# Altium schematic symbol library Ultrascale_SchLib.SchLib: 148 symbols (part 2 of 3)
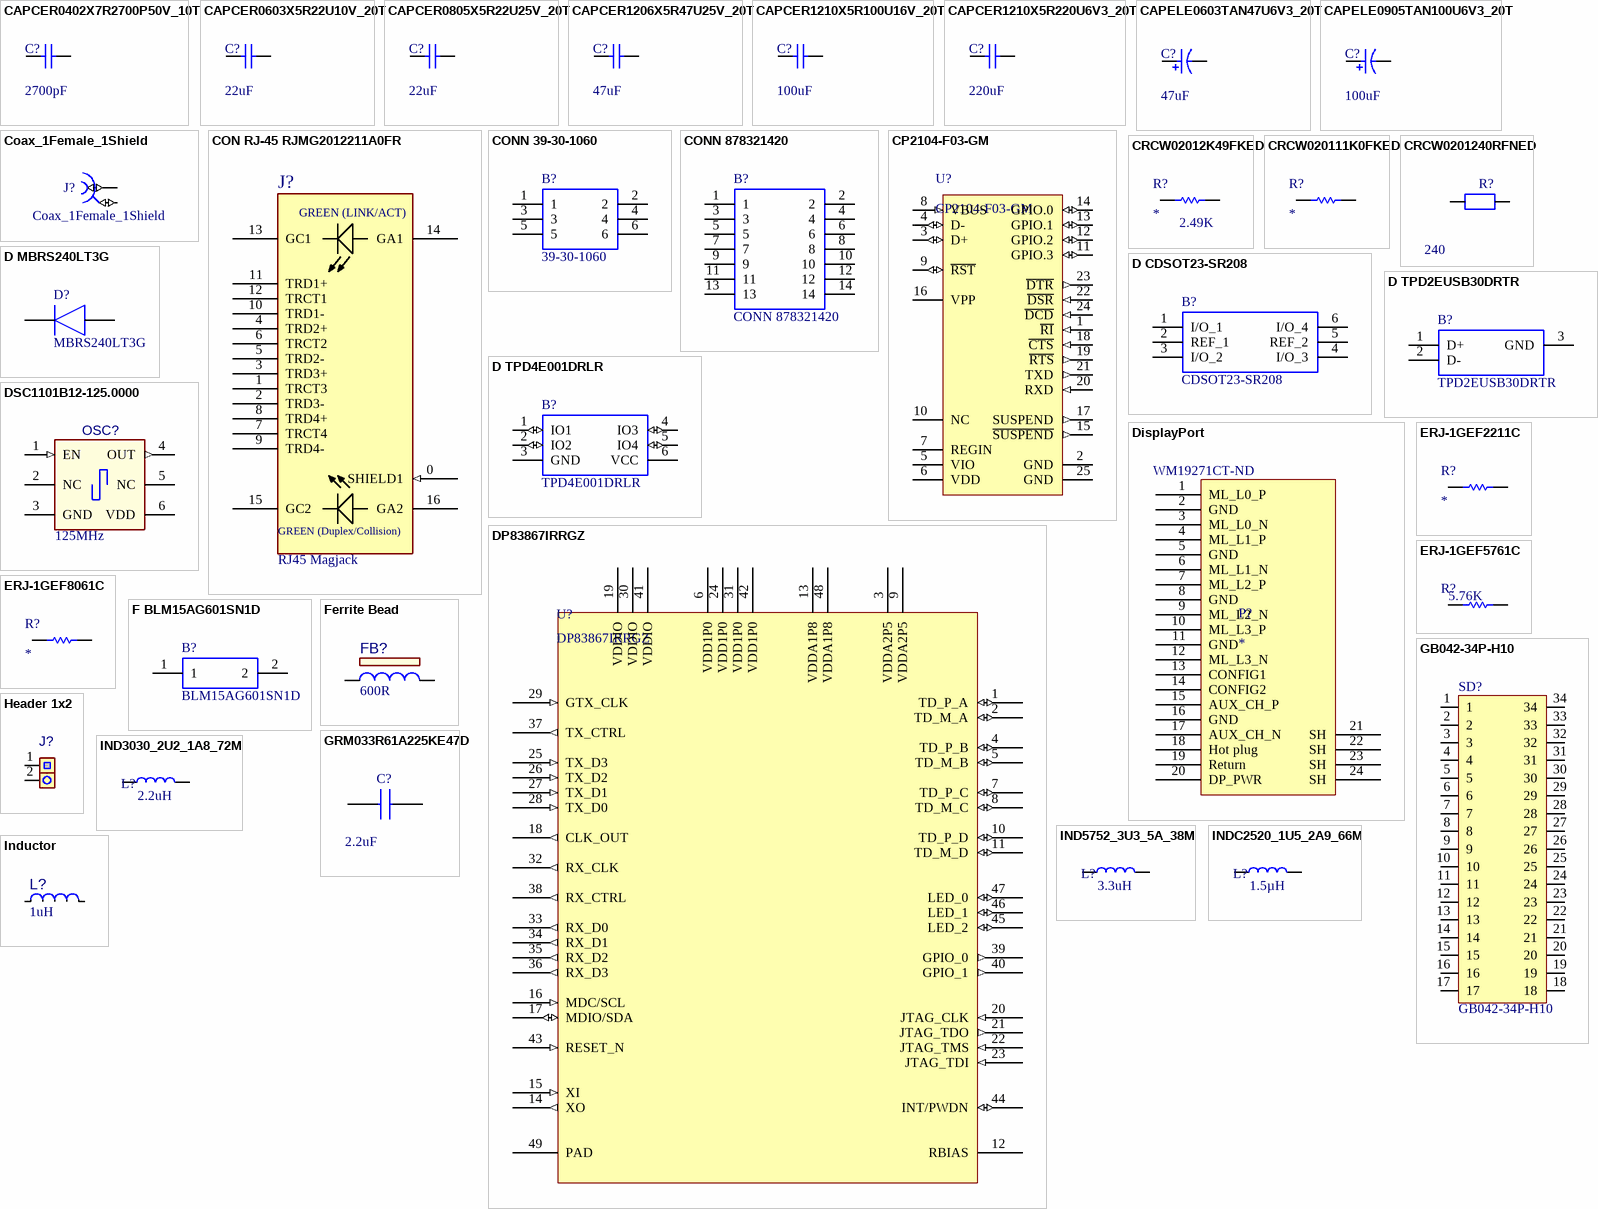
[diagram p8: symbols CAPCER0402X7R2700P50V_10T to Inductor]

## DSC1101B12-125.0000
designator OSC?  Frequency: 125MHz
OSC MEMS 125.000MHZ CMOS SMD; Manufacturer 1: Micrel; Manufacturer Part Number 1: DSC1101BI2-125.0000; Populated: Yes; Supplier 1: Digi-Key; Category: Crystals and Oscillators; ComponentLink1URL: http://www.ctscorp.com/components/Datasheets/008-0256-0.pdf; ComponentLink1Description: Datasheet; Description_: OSC MEMS 125.000MHZ CMOS SMD; RoHS: RoHS Compliant; Package: 5.0mm x 3.2mm
footprint OSC_5MX3M2_A (Oscillator 5x3.2mm 6 pin, 4 physical pins (2 & 5 removed))
pins: 1 EN (in), 2 NC, 3 GND, 4 OUT (out), 5 NC, 6 VDD (power)

## ERJ-1GEF2211C
designator R?
RES 2.21K OHM 0201 1% 1/20W; Manufacturer_Part_Number: ERJ-1GEF2211C; Vendor: Panasonic; Resistance_In_Ohms: 0.0; Power_(Watts): 0.05W, 1/20W; Tolerance: Jumper; Lead_Style: Surface Mount (SMD - SMT); Voltage_-_Working: 15V; Number_of_Terminations: 2; C: Copyright (C) 2015 Accelerated Designs. All rights reserved; DigiKeyPartNumber: P0.0AGTR-ND; Quantity_Available: 1650000; Copyright: Copyright (C) 2015 Accelerated Designs. All rights reserved; DataSheet: http://industrial.panasonic.com/www-data/pdf/AOA0000/AOA0000CE2.pdf; Case: 0201 (0603 metric); Packaging: Tape &amp; Reel (TR); Composition: Thick Film; Temperature_Coefficient: -; Resistance_(Ohms): 0.0; Features: -; Package_/_Case: 0201 (0603 Metric); Size_/_Dimension: 0.024" L x 0.012" W (0.60mm x 0.30mm); Height: 0.010" (0.26mm); Value: Value; Supplier 1: Digi-Key
footprint RC0201N
pins: 1, 2

## ERJ-1GEF5761C
designator R?  Resistance_(Ohms): 5.76K  (hidden comment: *)
RES 5.76K OHM 0201 1% 1/20W; Manufacturer_Part_Number: ERJ-1GEF5761C; Vendor: Panasonic; Power_(Watts): 0.05W, 1/20W; Tolerance: Â±1%; Lead_Style: Surface Mount (SMD - SMT); Voltage_-_Working: 15V; Temperature_Coefficient: Â±200ppm/Â°C; Number_of_Terminations: 2; C: Copyright (C) 2015 Accelerated Designs. All rights reserved; DigiKeyPartNumber: P4.70KABTR-ND; Quantity_Available: 0; Copyright: Copyright (C) 2015 Accelerated Designs. All rights reserved; DataSheet: http://industrial.panasonic.com/www-data/pdf/AOA0000/AOA0000CE2.pdf; Resistance_In_Ohms: 5.76K; Case: 0201 (0603 metric); Packaging: Tape &amp; Reel (TR); Composition: Thick Film; Features: -; Package_/_Case: 0201 (0603 Metric); Size_/_Dimension: 0.024" L x 0.012" W (0.60mm x 0.30mm); Height: 0.010" (0.26mm); Value: Value; Supplier 1: Digi-Key; Supplier Part Number 1: P5.76KABCT-ND
footprint RC0201N
pins: 1, 2

## ERJ-1GEF8061C
designator R?
RES 8.06K OHM 0201 1% 1/20W; Manufacturer_Part_Number: ERJ-1GEF8061C; Vendor: Panasonic; Resistance_In_Ohms: 4.70K; Power_(Watts): 0.05W, 1/20W; Tolerance: Â±1%; Lead_Style: Surface Mount (SMD - SMT); Voltage_-_Working: 15V; Temperature_Coefficient: Â±200ppm/Â°C; Number_of_Terminations: 2; C: Copyright (C) 2015 Accelerated Designs. All rights reserved; DigiKeyPartNumber: P4.70KABTR-ND; Quantity_Available: 0; Copyright: Copyright (C) 2015 Accelerated Designs. All rights reserved; DataSheet: http://industrial.panasonic.com/www-data/pdf/AOA0000/AOA0000CE2.pdf; Case: 0201 (0603 metric); Packaging: Tape &amp; Reel (TR); Composition: Thick Film; Features: -; Package_/_Case: 0201 (0603 Metric); Size_/_Dimension: 0.024" L x 0.012" W (0.60mm x 0.30mm); Height: 0.010" (0.26mm); Value: Value; Supplier 1: Digi-Key
footprint RC0201N
pins: 1, 2

## F BLM15AG601SN1D
designator B?, comment BLM15AG601SN1D
Ferrite bead SMD 0402 600R 300mA; Manufacturer_Name: Murata Electronics; Geometry.Height: 0.55mm; Number of Lines: 1; Impedance @ Frequency: 600 Ohm @ 100MHz; DC Resistance (DCR) (Max): 520 mOhm; Manufacturer_Part_Number: BLM15AG601SN1D; Datasheet Link: http://www.murata.com/~/media/webrenewal/support/library/catalog/products/emc/emifil/c31e.ashx?la=en-gb; Digi-Key Part Number: 490-1006-1-ND; Series: EMIFIL®, BLM15; Current Rating (Max): 300mA; Operating Temperature: -55°C ~ 125°C; Package / Case: 0402 (1005 Metric); Mounting Type: Surface Mount; Height (Max): 0.022" (0.55mm); Size / Dimension: 0.039" L x 0.020" W (1.00mm x 0.50mm); Supplier 1: Digi-Key; Supplier Part Number 1: 490-1006-1-ND
footprint BEADC1005X55N
pins: 1, 2

## Ferrite Bead
designator FB?  value 600R  (hidden comment: Ferrite Bead)
Manufacturer 1: TDK Corporation; Manufacturer Part Number 1: MPZ2012S601AT000; MCHP-ID: IND1162; Description_: FERRITE 2A 600R SMD 0805; Dev Tools Status: Production; Owner: Randolph Sobrepena; DCR: 100M; Test Frequency: 100MHz; Populated: YES; Revision: 1; Symbol: Ferrite Bead; Status: MCL Design; ComponentLink1URL: https://chn-vm-apps.microchip.com/mchprepo/parts/Datasheets/beads_commercial_power_mpz_en; ComponentLink1Description: Datasheet; Package: 0805; Type: Ferrite Bead; Category: Inductor; Supplier 1: Digi-Key; Supplier Part Number 1: 445-2206-1-ND; Quantity Override: 1
footprint IND_C_0805 (Chip Inductor, 2-Leads, Body 2.0x1.3mm, IPC Medium Density)
pins: 1, 2
2 alternate drawings of the same symbol

## GB042-34P-H10
designator SD?
Connector, eMMC
footprint GB042-34P-H10
pins: 1, 2, 3, 4, 5, 6, 7, 8, 9, 10, 11, 12, 13, 14, 15, 16, 17, 18, 19, 20, 21, 22, 23, 24, 25, 26, 27, 28, 29, 30, 31, 32, 33, 34

## GRM033R61A225KE47D
designator C?  value 2.2uF  (hidden comment: GRM033R61A225KE47D)
Multilayer Ceramic Capacitors MLCC - SMD/SMT 0201 2.2uF 10volts *Derate Voltage/Temp; Manufacturer_Name: Murata Electronics; Geometry.Height: 0.33mm; Supplier_Name: RS; RS Part Number: *; Manufacturer_Part_Number: GRM033R61A225KE47D; Other Part Number: *; Datasheet Link: http://www.murata.com/~/media/webrenewal/support/library/catalog/products/capacitor/mlcc/c02e.pdf; Supplier 1: Digi-Key; Supplier Part Number 1: 490-13227-1-ND
footprint CAPC0603X33N
pins: 1, 2

## Header 1x2
designator J?, comment HDR-2.54 Male 1x2  (value not drawn)
CONN HEADER 2POS .100" SGL GOLD; Manufacturer Part Number 1: TSW-102-07-G-S; Manufacturer 1: Samtec; Part Checked: Jennifer Hancock; Description_: CON HDR-2.54 MALE 1x2 GOLD 5.84MH TH VERT; Populated: Yes; Package: Through Hole; Supplier 1: Digi-Key; Supplier Part Number 1: SAM1029-02-ND; Value: HDR-2.54 Male 1x2; Part Footprint Checked: *; Part Golden: Jennifer Hancock; Part 3D Model Checked: Jennifer Hancock; Manufacturer 2: FCI; Manufacturer Part Number 2: 68000-236HLF; Revision Date: 08/14/2015; Tolerance: *; Rating: *; Owner: *; Document Link: //depot_np_hweng_boards/altium_libraries/datasheets/Samtec/TSW_TH.pdf
footprint HDR_M_2.54_1x2 (Header Male Vertical 2 Way 2.54mm Pitch)
pins: 1 P1, 2 P2
1 alternate drawing of the same symbol

## IND3030_2U2_1A8_72M
designator L?  Inductance: 2.2uH
FIXED IND 2.2UH 1.8A 72 MOHM SMD; Manufacturer 1: Bourns Inc.; Manufacturer Part Number 1: SRN3015-2R2M; DC Resistance (DCR) (Max): 72 mOhm Max; Tolerance: ±20%; Current - Saturation: 1.65A; Package: 3.00mm x 3.00mm; ComponentLink1Description: Datasheet; ComponentLink1URL: C:\Users\Public\Documents\Altium\AD16\Library\PDF\SRN3015.pdf; Supplier 1: Digi-Key; Supplier Part Number 1: SRN3015-2R2MCT-ND; Operating Temperature: -40°C ~ 125°C; Current Rating: 1.8A
footprint IND_SRN3015 (Bourns Inc., SRN3015 Series, Body 3.0x3.0mm)
pins: 1, 2

## IND5752_3U3_5A_38M
designator L?  Inductance: 3.3uH
FIXED IND 3.3UH 5A 38 MOHM SMD; Manufacturer 1: Bourns Inc.; Manufacturer Part Number 1: SRP5030T-3R3M; DC Resistance (DCR) (Max): 38 mOhm Max; Tolerance: ±20%; Current - Saturation: 8A; Package: 5.70mm x 5.20mm; ComponentLink1Description: Datasheet; ComponentLink1URL: C:\Users\Public\Documents\Altium\AD16\Library\PDF\SRP5030T.pdf; Supplier 1: Digi-Key; Supplier Part Number 1: SRP5030T-3R3MCT-ND; Operating Temperature: -40°C ~ 125°C; Current Rating: 5A
footprint IND_SRP5030T (Bourns Inc., SRP5030T Series, Body 5.7x5.2mm)
pins: 1, 2

## INDC2520_1U5_2A9_66M
designator L?  Inductance: 1.5µH
FIXED IND 1.5UH 2.9A 66 MOHM SMD; Manufacturer 1: Vishay Dale; Manufacturer Part Number 1: IHHP1008ABER1R5M01; DC Resistance (DCR) (Max): 66 mOhm; Tolerance: ±20%; Current - Saturation: 3.4A; Package: 1008 (2520 Metric); ComponentLink1Description: Datasheet; ComponentLink1URL: C:\Users\Public\Documents\Altium\AD16\Library\PDF\ihhp-1008ab-01.pdf; Supplier 1: Digi-Key; Supplier Part Number 1: 541-2669-1-ND; Operating Temperature: -55°C ~ 125°C; Current Rating: 2.9A
footprint INDC2520 (Chip Inductor, Body 2.5x2.0mm)
pins: 1, 2

## Inductor
designator L?  value 1uH  (hidden comment: Inductor)
Manufacturer 1: Taiyo Yuden; Manufacturer Part Number 1: NR3015T1R0N; MCHP-ID: IND1027; Description_: INDUCTOR 1uH 2.1A 30% SMD L3W3H1.5; Dev Tools Status: Production; Owner: Tad Ahlvers; DCR: 0.036R; Saturation Current: 2.1A; Test Frequency: 100kHz; Populated: YES; Revision: 1; Status: MCL Design; ComponentLink1URL: https://chn-vm-apps.microchip.com/mchprepo/parts/Datasheets/NR3015T1R0N.pdf; ComponentLink1Description: Datasheet; Operating Temperature: -25C to +120C; Package: L3W3H1.5; Type: Inductor; Category: Inductor; Supplier 1: Digi-Key; Supplier Part Number 1: 587-1647-1-ND; Quantity Override: 1
footprint IND_TAI_NR_L3W3H1.5
pins: 1 S, 2 F
2 alternate drawings of the same symbol

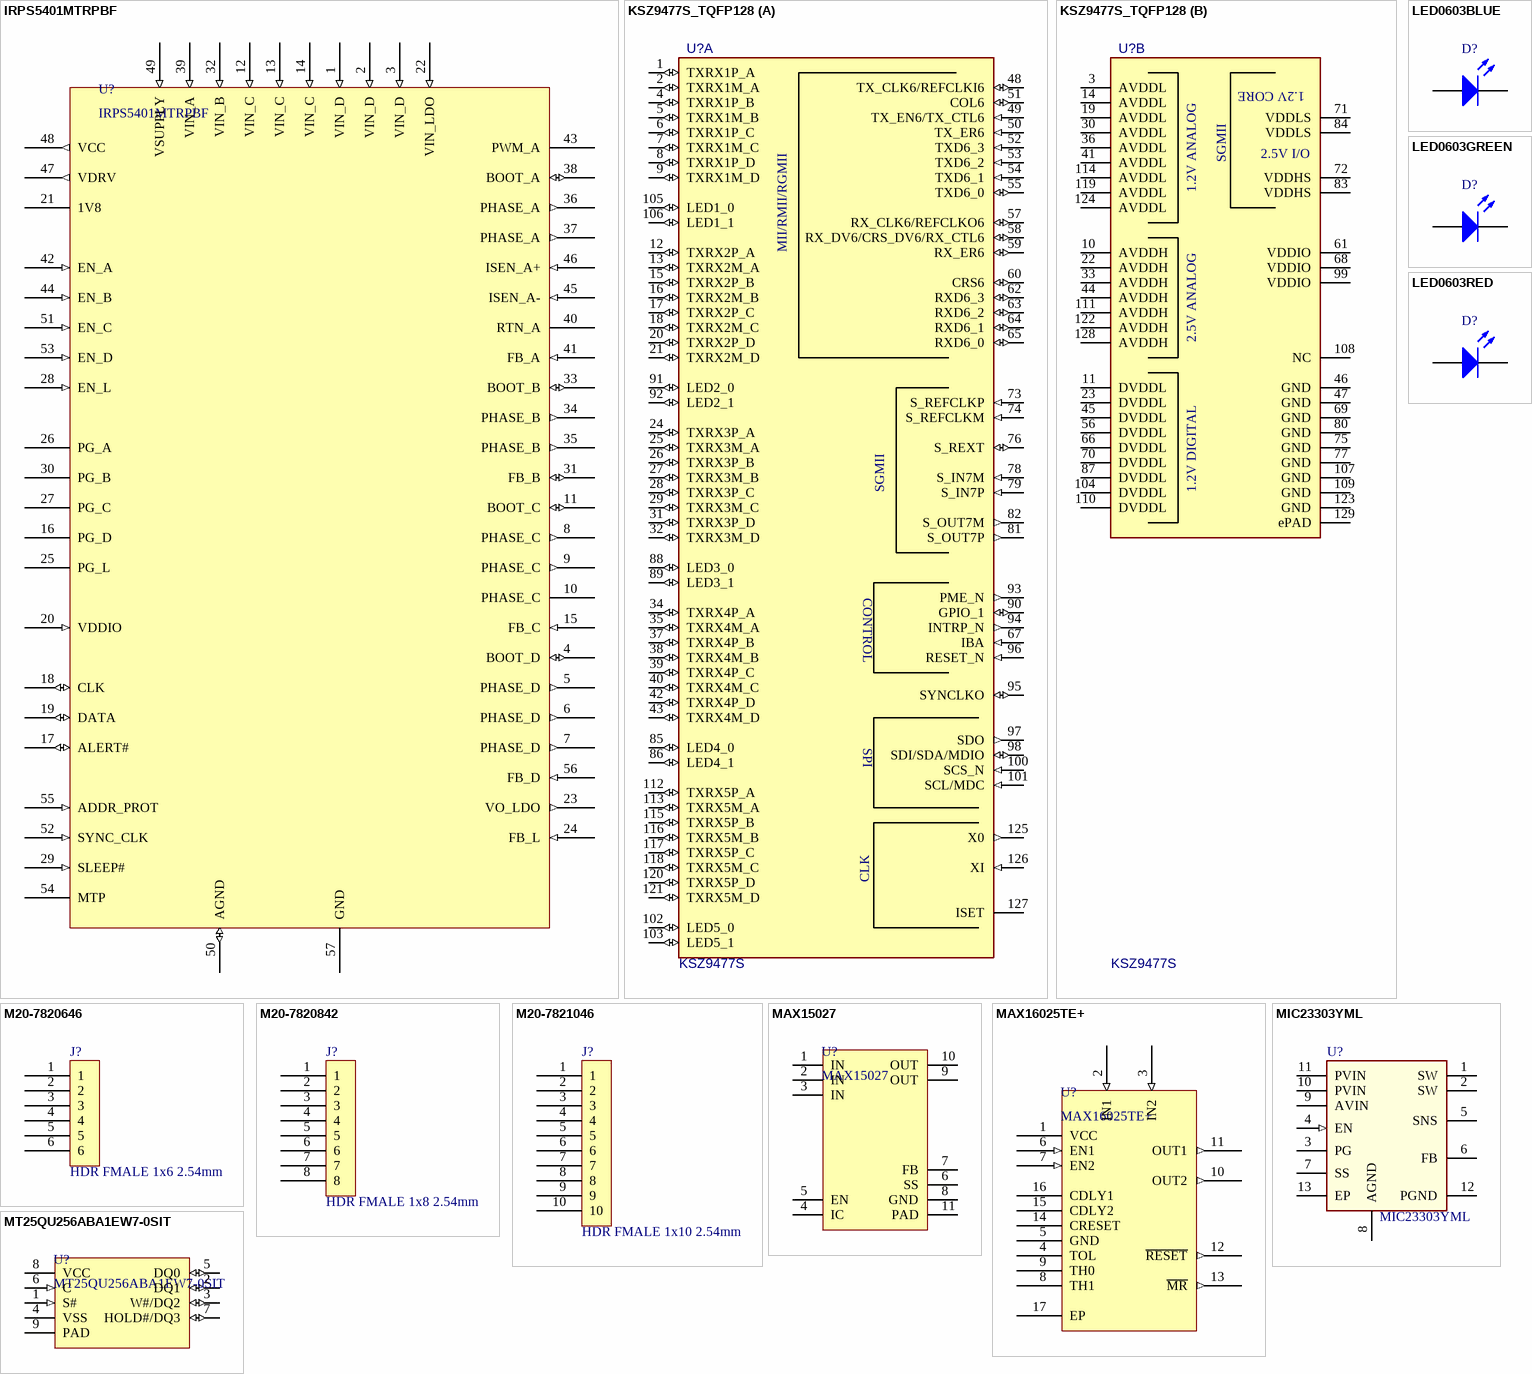
[diagram p2: symbols IRPS5401MTRPBF to MT25QU256ABA1EW7-0SIT]

## IRPS5401MTRPBF
designator U?
Flexible Power Management Unit; Manufacturer 1: Infineon Technologies; ComponentLink1Description: Datasheet; ComponentLink1URL: C:\Users\Public\Documents\Altium\AD16\Library\PDF\Infineon-PB-IRPS5401-PB-v01_00-EN.pdf; Supplier 1: Digi-Key; Supplier Part Number 1: IRPS5401MTRPBF-ND; Manufacturer Part Number 1: IRPS5401MTRPBF; Operating Temperature: -40°C To 125°C
footprint QFN40P700X700X90_HS-57N (QFN, 56-Leads, Body 7.00x7.00mm, Pitch 0.40mm, Thermal Pad 5.60x5.60mm, IPC Medium Density)
pins: 1 VIN_D (in), 2 VIN_D (in), 3 VIN_D (in), 4 BOOT_D (io), 5 PHASE_D (out), 6 PHASE_D (out), 7 PHASE_D (out), 8 PHASE_C (out), 9 PHASE_C (out), 10 PHASE_C, 11 BOOT_C (io), 12 VIN_C (in), 13 VIN_C (in), 14 VIN_C (in), 15 FB_C (in), 16 PG_D, 17 ALERT# (io), 18 CLK (io), 19 DATA (io), 20 VDDIO (in), 21 1V8, 22 VIN_LDO (in), 23 VO_LDO (out), 24 FB_L (in), 25 PG_L, 26 PG_A, 27 PG_C, 28 EN_L (in), 29 SLEEP# (in), 30 PG_B, 31 FB_B (io), 32 VIN_B (in), 33 BOOT_B (io), 34 PHASE_B (out), 35 PHASE_B (out), 36 PHASE_A (out), 37 PHASE_A (out), 38 BOOT_A (io), 39 VIN_A (in), 40 RTN_A, 41 FB_A (in), 42 EN_A (in), 43 PWM_A, 44 EN_B (in), 45 ISEN_A- (in), 46 ISEN_A+ (in), 47 VDRV (out), 48 VCC (out), 49 VSUPPLY (in), 50 AGND (io), 51 EN_C (in), 52 SYNC_CLK (in), 53 EN_D (in), 54 MTP, 55 ADDR_PROT (in), 56 FB_D (in), 57 GND

## KSZ9477S_TQFP128
designator U?, comment KSZ9477S
IC, 7-Port Gigabit Ethernet Switch with 2 RGMII / MII / RMII Interfaces, TQFP128; Manufacturer 1: Micrel; Populated: Yes; Owner: sam charles; Manufacturer Part Number 1: KSZ9477S; Description_: IC, 7-Port Gigabit Ethernet Switch with 2 RGMII / MII / RMII Interfaces, TQFP128; Revision Date: 06/03/2016; RoHS: Yes; Package: TQFP128-14x14; Document Link: http://nyusperforce.smsc.com//depot_np_hweng_boards/altium_libraries/datasheets/_Microchip/_Micrel/KSZ9897R.pdf; Status: New; Value: KSZ9477S
footprint TQFP-128_14x14_EP10x10 (TSQFP, 128-Leads, Body 14.00x14.00mm, Pitch 0.40mm, 10mm Epad, IPC Medium Density)
part A pins: 1 TXRX1P_A (io), 2 TXRX1M_A (io), 4 TXRX1P_B (io), 5 TXRX1M_B (io), 6 TXRX1P_C (io), 7 TXRX1M_C (io), 8 TXRX1P_D (io), 9 TXRX1M_D (io), 12 TXRX2P_A (io), 13 TXRX2M_A (io), 15 TXRX2P_B (io), 16 TXRX2M_B (io), 17 TXRX2P_C (io), 18 TXRX2M_C (io), 20 TXRX2P_D (io), 21 TXRX2M_D (io), 24 TXRX3P_A (io), 25 TXRX3M_A (io), 26 TXRX3P_B (io), 27 TXRX3M_B (io), 28 TXRX3P_C (io), 29 TXRX3M_C (io), 31 TXRX3P_D (io), 32 TXRX3M_D (io), 34 TXRX4P_A (io), 35 TXRX4M_A (io), 37 TXRX4P_B (io), 38 TXRX4M_B (io), 39 TXRX4P_C (io), 40 TXRX4M_C (io), 42 TXRX4P_D (io), 43 TXRX4M_D (io), 48 TX_CLK6/REFCLKI6 (io), 49 TX_EN6/TX_CTL6 (in), 50 TX_ER6 (in), 51 COL6 (io), 52 TXD6_3 (in), 53 TXD6_2 (in), 54 TXD6_1 (in), 55 TXD6_0 (io), 57 RX_CLK6/REFCLKO6 (io), 58 RX_DV6/CRS_DV6/RX_CTL6 (io), 59 RX_ER6 (io), 60 CRS6 (io), 62 RXD6_3 (io), 63 RXD6_2 (io), 64 RXD6_1 (io), 65 RXD6_0 (io), 67 IBA (in), 73 S_REFCLKP (in), 74 S_REFCLKM (in), 76 S_REXT (io), 78 S_IN7M (in), 79 S_IN7P (in), 81 S_OUT7P (out), 82 S_OUT7M (out), 85 LED4_0 (io), 86 LED4_1 (io), 88 LED3_0 (io), 89 LED3_1 (io), 90 GPIO_1 (io), 91 LED2_0 (io), 92 LED2_1 (io), 93 PME_N (out), 94 INTRP_N (out), 95 SYNCLKO (io), 96 RESET_N (in), 97 SDO (out), 98 SDI/SDA/MDIO (io), 100 SCS_N (in), 101 SCL/MDC (in), 102 LED5_0 (io), 103 LED5_1 (io), 105 LED1_0 (io), 106 LED1_1 (io), 112 TXRX5P_A (io), 113 TXRX5M_A (io), 115 TXRX5P_B (io), 116 TXRX5M_B (io), 117 TXRX5P_C (io), 118 TXRX5M_C (io), 120 TXRX5P_D (io), 121 TXRX5M_D (io), 125 X0 (out), 126 XI (in), 127 ISET
part B pins: 3 AVDDL (power), 10 AVDDH (power), 11 DVDDL (power), 14 AVDDL (power), 19 AVDDL (power), 22 AVDDH (power), 23 DVDDL (power), 30 AVDDL (power), 33 AVDDH (power), 36 AVDDL (power), 41 AVDDL (power), 44 AVDDH (power), 45 DVDDL (power), 46 GND (power), 47 GND (power), 56 DVDDL (power), 61 VDDIO (power), 66 DVDDL (power), 68 VDDIO (power), 69 GND (power), 70 DVDDL (power), 71 VDDLS (power), 72 VDDHS (power), 75 GND (power), 77 GND (power), 80 GND (power), 83 VDDHS (power), 84 VDDLS (power), 87 DVDDL (power), 99 VDDIO (power), 104 DVDDL (power), 107 GND (power), 108 NC, 109 GND (power), 110 DVDDL (power), 111 AVDDH (power), 114 AVDDL (power), 119 AVDDL (power), 122 AVDDH (power), 123 GND (power), 124 AVDDL (power), 128 AVDDH (power), 129 ePAD (power)
part A text: MII/RMII/RGMII; SGMII; CONTROL; SPI; CLK
part B text: 1.2V CORE; SGMII; 2.5V I/O; 1.2V ANALOG; 2.5V ANALOG; 1.2V DIGITAL

## LED0603BLUE
designator D?
LED BLUE DIFFUSED 0603 SMD; Manufacturer 1: Broadcom Limited; Manufacturer Part Number 1: HSMR-C191; Voltage - Forward (Vf) (Typ): 3.4V; Current - Test: 20mA; Package: 0603; Supplier 1: Digi-Key; Supplier Part Number 1: 516-2523-1-ND; ComponentLink1Description: Datasheet; ComponentLink1URL: C:\Users\Public\Documents\Altium\AD16\Library\PDF\AV02-0592EN0.pdf
footprint LED0603BLUE (1.6x0.8mm LED)
pins: 1 A, 2 K

## LED0603GREEN
designator D?
LED GREEN DIFFUSED 0603 SMD; Manufacturer 1: Broadcom Limited; Manufacturer Part Number 1: HSMM-C190; Voltage - Forward (Vf) (Typ): 3.3V; Current - Test: 20mA; Package: 0603; Supplier 1: Digi-Key; Supplier Part Number 1: 516-2833-1-ND; ComponentLink1Description: Datasheet; ComponentLink1URL: C:\Users\Public\Documents\Altium\AD16\Library\PDF\AV02-0592EN0.pdf
footprint LED0603GREEN (1.6x0.8mm LED)
pins: 1 A, 2 K

## LED0603RED
designator D?
LED RED DIFFUSED 0603 SMD; Manufacturer 1: Broadcom Limited; Manufacturer Part Number 1: HSMH-C191; Voltage - Forward (Vf) (Typ): 1.8V; Current - Test: 20mA; Package: 0603; Supplier 1: Digi-Key; Supplier Part Number 1: 516-3067-1-ND; ComponentLink1Description: Datasheet; ComponentLink1URL: C:\Users\Public\Documents\Altium\AD16\Library\PDF\AV02-0592EN0.pdf
footprint LED0603RED (1.6x0.8mm LED)
pins: 1 A, 2 K

## M20-7820646
designator J?, comment HDR FMALE 1x6 2.54mm
06-WAY SIL VERT SOCKET L/FREE; Manufacturer 1: Harwin Inc; Manufacturer Part Number 1: M20-7820646; Connector Type: Receptacle; Number of Positions: 6; Number of Positions Loaded: All; Pitch: 0.100" (2.54mm); .Checked PCB: MM; Supplier 1: Digi-Key; RoHS: RoHS Compliant; Category: Connectors, Interconnects; Stock 1: 87; Pricing 1: 1=0.96, 38=0.79211, 76=0.75895, 114=0.72596, 266=0.66, 532=0.594, 1026=0.528, 2508=0.4785 (USD); Packaging: Tube; Contact Type: Female Socket; Number of Rows: 1; Row Spacing: -; Mounting Type: Through Hole; Termination: Solder; Fastening Type: -; Features: -; Contact Finish: Tin; Contact Finish Thickness: -; Color: Black; ComponentLink1URL: http://harwin.com/includes/pdfs/M20-782.pdf; ComponentLink1Description: http://harwin.com/includes/pdfs/M20-782.pdf; Supplier Part Number 1: 952-1809-ND; .Checked SCH: MM; .Creator: MM
footprint Hdr_Female_1x6_2.54mm (Creator MM)
pins: 1, 2, 3, 4, 5, 6

## M20-7820842
designator J?, comment HDR FMALE 1x8 2.54mm
08-WAY SIL VERT SOCKET L/FREE; Manufacturer 1: Harwin Inc; Manufacturer Part Number 1: M20-7820842; Connector Type: Receptacle; Number of Positions: 8; Number of Positions Loaded: All; Pitch: 0.100" (2.54mm); .Creator: MM; .Checked PCB: RF; Supplier 1: Digi-Key; RoHS: RoHS Compliant; Category: Connectors, Interconnects; Stock 1: 2070; Pricing 1: 1=1.1, 29=0.91207, 58=0.87397, 116=0.83603, 261=0.76, 522=0.684, 1015=0.608, 2523=0.551 (USD); Packaging: Tube; Contact Type: Female Socket; Number of Rows: 1; Row Spacing: -; Mounting Type: Through Hole; Termination: Solder; Fastening Type: -; Features: -; Contact Finish: Gold; Contact Finish Thickness: Flash; Color: Black; ComponentLink1URL: http://harwin.com/includes/pdfs/M20-782.pdf; ComponentLink1Description: http://harwin.com/includes/pdfs/M20-782.pdf; Supplier Part Number 1: 952-1823-ND; .Checked SCH: RF
footprint Hdr_Female_1x8_2.54mm (Creator MM)
pins: 1, 2, 3, 4, 5, 6, 7, 8

## M20-7821046
designator J?, comment HDR FMALE 1x10 2.54mm
10-WAY SIL VERT SOCKET L/FREE; Manufacturer 1: Harwin Inc; Manufacturer Part Number 1: M20-7821046; Connector Type: Receptacle; Number of Positions: 10; Number of Positions Loaded: All; Pitch: 0.100" (2.54mm); .Creator: MM; .Checked PCB: RF; Supplier 1: Digi-Key; RoHS: RoHS Compliant; Category: Connectors, Interconnects; Stock 1: 214; Pricing 1: 1=1.28, 23=1.12217, 46=1.05609, 69=1.01203, 115=0.968, 253=0.88, 506=0.792, 1012=0.704, 2507=0.638 (USD); Packaging: Tube; Contact Type: Female Socket; Number of Rows: 1; Row Spacing: -; Mounting Type: Through Hole; Termination: Solder; Fastening Type: -; Features: -; Contact Finish: Tin; Contact Finish Thickness: -; Color: Black; ComponentLink1URL: http://harwin.com/includes/pdfs/M20-782.pdf; ComponentLink1Description: http://harwin.com/includes/pdfs/M20-782.pdf; Supplier Part Number 1: 952-1847-ND; .Checked SCH: RF
footprint Hdr_Female_1x10_2.54mm (Creator MM)
pins: 1, 2, 3, 4, 5, 6, 7, 8, 9, 10

## MAX15027
designator U?
IC REG LINEAR POS ADJ 1A 10TDFN; Manufacturer 1: Maxim Integrated; Manufacturer Part Number 1: MAX15027ATB+T; ComponentLink1Description: Datasheet; ComponentLink1URL: C:\Users\Public\Documents\Altium\AD16\Library\PDF\MAX15027-MAX15028.pdf; Supplier 1: Digi-Key; Supplier Part Number 1: MAX15027ATB+TCT-ND; Operating Temperature: -40°C ~ 125°C
footprint MAX15027_T1033+1_V (SON, 10-Leads, Body 3x3mm, Pitch 0.5mm, Thermal Pad 2.35x1.58mm, Maxim Recommended)
pins: 1 IN, 2 IN, 3 IN, 4 IC, 5 EN, 6 SS, 7 FB, 8 GND, 9 OUT, 10 OUT, 11 PAD

## MAX16025TE+
designator U?
IC SUPERVISORY CIRC DL 16TQFN; Manufacturer 1: Maxim Integrated; ComponentLink1Description: Datasheet; ComponentLink1URL: C:\Users\Public\Documents\Altium\AD16\Library\PDF\MAX16025-MAX16030.pdf; Supplier 1: Digi-Key; Supplier Part Number 1: MAX16025TE+-ND; Manufacturer Part Number 1: MAX16025TE+; Operating Temperature: -40°C ~ 125°C (TA)
footprint T1644+4_L (QFN, 16-Leads, Body 4x4mm, Pitch 0.65mm, Thermal Pad 2.3x2.3mm, IPC High Density)
pins: 1 VCC, 2 IN1 (in), 3 IN2 (in), 4 TOL, 5 GND, 6 EN1 (in), 7 EN2 (in), 8 TH1, 9 TH0, 10 OUT2 (out), 11 OUT1 (out), 12 ~{RESET} (out), 13 ~{MR} (out), 14 CRESET, 15 CDLY2, 16 CDLY1, 17 EP

## MIC23303YML
designator U?
4MHz PWM 3A Buck Regulator with HyperLight Load and Power Good; Part Checked: Carl Johnson; Manufacturer 1: Microchip Technology; Populated: Yes; Temperature Rating: -40 to +125 C; Description_: 4MHz PWM 3A Buck Regulator with HyperLight Load and Power Good; Document Link: http://nyusperforce.smsc.com//depot_np_hweng_boards/altium_libraries/datasheets/_Microchip/_Micrel/MIC23303.pdf; Owner: *; Part 3D Model Checked: *; Part Footprint Checked: *; Part Golden: *; Revision Date: 06/20/16; Package: DFN12-3x3; Manufacturer Part Number 1: MIC23303YML; Supplier 1: DigiKey; Supplier 2: Mouser; Supplier Part Number 1: 1611-MIC23303YML-T5CT-ND; Supplier Part Number 2: 998-MIC23303YMLT5; Value: MIC23303YML
footprint DFN-12_3x3 (Footprint not found)
pins: 1 SW, 2 SW, 3 PG (power), 4 EN (in), 5 SNS, 6 FB (hiz), 7 SS, 8 AGND (power), 9 AVIN (power), 10 PVIN (power), 11 PVIN (power), 12 PGND (power), 13 EP

## MT25QU256ABA1EW7-0SIT
designator U?
IC FLASH 256MBIT 108MHZ 8VPDFN; Manufacturer 1: Micron Technology Inc.; ComponentLink1Description: Datasheet; ComponentLink1URL: C:\Users\Public\Documents\Altium\AD16\Library\PDF\MT25Q_QLJS_U_256_ABA_0.pdf; Supplier 1: Digi-Key; Manufacturer Part Number 1: MT25QU256ABA1EW7-0SIT
footprint W-PDFN-8_6x5mm (SON, 8-Leads, Body 5.00x6.00mm, Pitch 1.27mm, Thermal Pad 3.00x3.00mm, IPC Medium Density)
pins: 1 S# (in), 2 DQ1 (io), 3 W#/DQ2 (io), 4 VSS, 5 DQ0 (io), 6 C (in), 7 HOLD#/DQ3 (io), 8 VCC, 9 PAD

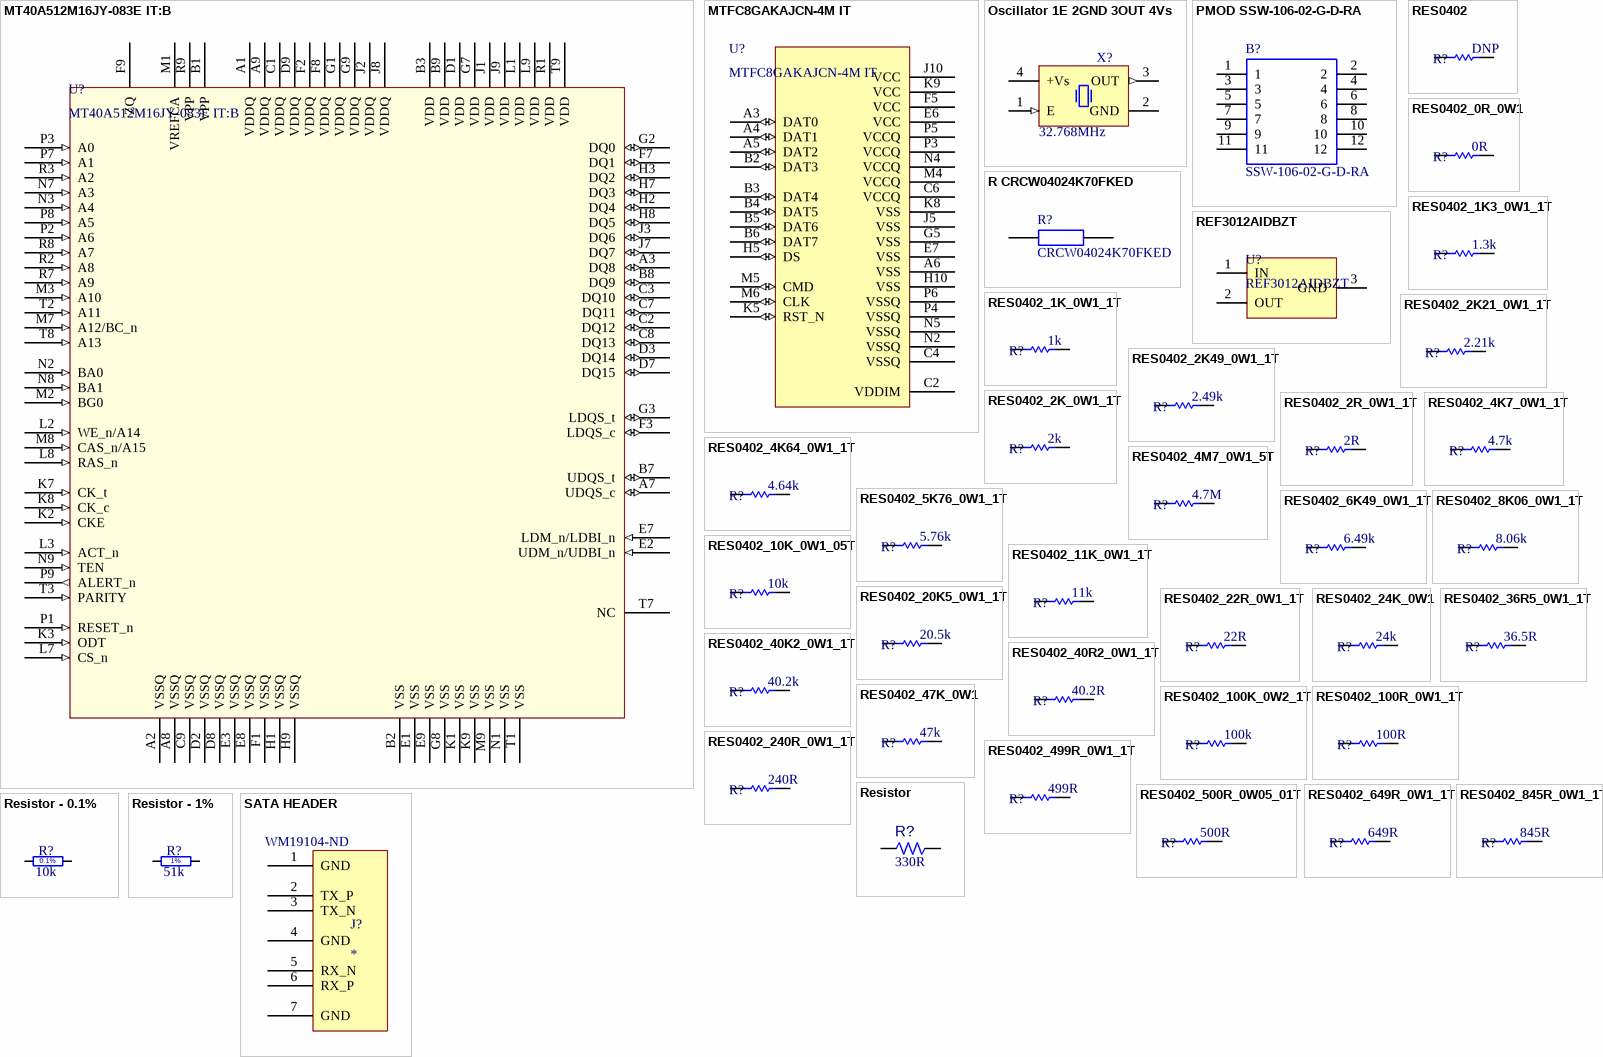
[diagram p3: symbols MT40A512M16JY-083E IT:B to SATA HEADER]

## MT40A512M16JY-083E IT:B
designator U?
IC SDRAM 8GBIT 1.2GHZ 96BGA; Manufacturer 1: Micron Technology Inc.; ComponentLink1Description: Datasheet; ComponentLink1URL: C:\Users\Public\Documents\Altium\AD16\Library\PDF\8Gb_DDR4_SDRAM.pdf; Supplier 1: Digi-Key; Supplier Part Number 1: 557-1690-1-ND; Manufacturer Part Number 1: MT40A512M16JY-083E IT:B; Operating Temperature: -40°C ~ 95°C (TC)
footprint BGA96C80P9X16_800X1400X120 (BGA, 96-Leads, Body 8.00x14.00mmx1.20mm, Pitch 0.80mm)
pins: A1 VDDQ, A2 VSSQ, A3 DQ8 (io), A7 UDQS_c (io), A8 VSSQ, A9 VDDQ, B1 VPP, B2 VSS, B3 VDD, B7 UDQS_t (io), B8 DQ9 (io), B9 VDD, C1 VDDQ, C2 DQ12 (io), C3 DQ10 (io), C7 DQ11 (io), C8 DQ13 (io), C9 VSSQ, D1 VDD, D2 VSSQ, D3 DQ14 (io), D7 DQ15 (io), D8 VSSQ, D9 VDDQ, E1 VSS, E2 UDM_n/UDBI_n (in), E3 VSSQ, E7 LDM_n/LDBI_n (in), E8 VSSQ, E9 VSS, F1 VSSQ, F2 VDDQ, F3 LDQS_c (io), F7 DQ1 (io), F8 VDDQ, F9 ZQ, G1 VDDQ, G2 DQ0 (io), G3 LDQS_t (io), G7 VDD, G8 VSS, G9 VDDQ, H1 VSSQ, H2 DQ4 (io), H3 DQ2 (io), H7 DQ3 (io), H8 DQ5 (io), H9 VSSQ, J1 VDD, J2 VDDQ, J3 DQ6 (io), J7 DQ7 (io), J8 VDDQ, J9 VDD, K1 VSS, K2 CKE (in), K3 ODT (in), K7 CK_t (in), K8 CK_c (in), K9 VSS, L1 VDD, L2 WE_n/A14 (in), L3 ACT_n (in), L7 CS_n (in), L8 RAS_n (in), L9 VDD, M1 VREFCA, M2 BG0 (in), M3 A10 (in), M7 A12/BC_n (in), M8 CAS_n/A15 (in), M9 VSS, N1 VSS, N2 BA0 (in), N3 A4 (in), N7 A3 (in), N8 BA1 (in), N9 TEN (in), P1 RESET_n (in), P2 A6 (in), P3 A0 (in), P7 A1 (in), P8 A5 (in), P9 ALERT_n (out), R1 VDD, R2 A8 (in), R3 A2 (in), R7 A9 (in), R8 A7 (in), R9 VPP, T1 VSS, T2 A11 (in), T3 PARITY (in), T7 NC, T8 A13 (in), T9 VDD

## MTFC8GAKAJCN-4M IT
designator U?
MASSFLASH/CONTROLLER 64G; Manufacturer 1: Micron Technology Inc.; ComponentLink1Description: Datasheet; ComponentLink1URL: C:\Users\Public\Documents\Altium\AD16\Library\PDF\; Supplier 1: Digi-Key; Supplier Part Number 1: MTFC8GAKAJCN-4M IT-ND; Manufacturer Part Number 1: MTFC8GAKAJCN-4M IT; Operating Temperature: -40°C ~ 85°C (TA)
footprint eMMC (VFBGA 153 ball 11.5x13mm Micron)
pins: A3 DAT0 (io), A4 DAT1 (io), A5 DAT2 (io), A6 VSS (power), B2 DAT3 (io), B3 DAT4 (io), B4 DAT5 (io), B5 DAT6 (io), B6 DAT7 (io), C2 VDDIM (power), C4 VSSQ (power), C6 VCCQ (power), E6 VCC (power), E7 VSS (power), F5 VCC (power), G5 VSS (power), H5 DS (io), H10 VSS (power), J5 VSS (power), J10 VCC (power), K5 RST_N (io), K8 VSS (power), K9 VCC (power), M4 VCCQ (power), M5 CMD (io), M6 CLK (io), N2 VSSQ (power), N4 VCCQ (power), N5 VSSQ (power), P3 VCCQ (power), P4 VSSQ (power), P5 VCCQ (power), P6 VSSQ (power)

## Oscillator 1E 2GND 3OUT 4Vs
designator X?, comment 32.768MHz
Oscillator 4 pins 1=E 2=GND 3=OUT 4=+Vs; Part Number: OSC_32.7688MHZ_RAKON_LF SPXO019203; Part Description: 3.3V ±50ppm Tri-State Surface Mount HCCMOS Clock Oscillator (CFPS-73 Serie); Manufacturer: EPSON; Manufacturer Part Number: SG-3030JF 32.7680KB0: ROHS; Table: Crystals & Oscillators; Frequency: 32.768kHz; Output: CMOS; Voltage - Supply: 1.5 V ~ 5.5 V; Current - Supply (Max): 2µA; Component Kind: Standard; Component Type: Standard; Footprint: OSCSC508P500X700X180-4N; PackageDescription: SMD Oscillator, side convave, 4 pins, 5.00x7.00mm; Pin Count: 4; Mounted: Yes; Socket: No; SMD: Yes; ComponentHeight: 2mm; HelpURL: \\cern.ch\dfs\Applications\Altium\Datasheets\OSC_RAKON_CFPS.pdf; Author: CERN DEM JLC; CreateDate: 5.10.2009; LatestRevisionDate: 5.10.2009; Category: Crystals and Oscillators; Supplier Part Number: SG-3030JF 32.7680KB0: ROHS-ND; Supplier: Digi-Key; RoHS: RoHS Compliant; Packaging: Tape & Reel (TR); Type: XO (Standard); Function: -; Frequency Stability: -; Operating Temperature: -20°C ~ 70°C; Ratings: -; Mounting Type: Surface Mount; Size / Dimension: 0.280" L x 0.181" W (7.10mm x 4.60mm); Height: 0.059" (1.50mm); Package / Case: 4-SOJ; Current - Supply (Disable) (Max): -; Value: 32.768MHz
footprint OSCSC508P500X700X180-4N
pins: 1 E (in), 2 GND (power), 3 OUT (out), 4 +Vs (power)

## PMOD SSW-106-02-G-D-RA
designator B?, comment SSW-106-02-G-D-RA
Samtec SSW Series 2.54mm 12 Way 2 Row Right Angle PCB Socket Through Hole Board to Board; Geometry.Height: mm; Detailed Description: 12 Position Receptacle Connector Through Hole, Right Angle; Connector Type: Receptacle; Style: Board to Board or Cable; Number of Positions: 12; Number of Positions Loaded: All; Pitch - Mating: 0.100" (2.54mm); Material Flammability Rating: UL94 V-0; Current Rating: 5.7A per Contact; Manufacturer_Name: SAMTEC; Manufacturer_Part_Number: SSW-106-02-G-D-RA; Datasheet Link: http://suddendocs.samtec.com/prints/ssw-1xx-xx-xxx-x-xx-xxx-xx-mkt.pdf; Digi-Key Part Number: SAM10026-ND; Contact Type: Forked; Number of Rows: 2; Row Spacing - Mating: 0.100" (2.54mm); Mounting Type: Through Hole, Right Angle; Termination: Solder; Fastening Type: Push-Pull; Contact Finish - Mating: Tin; Insulation Color: Black; Insulation Height: 0.195" (4.95mm); Contact Length - Post: 0.100" (2.54mm); Operating Temperature: -55°C ~ 105°C; Contact Finish - Post: Tin; Insulation Material: Liquid Crystal Polymer (LCP); Contact Shape: Square; Contact Material: Phosphor Bronze; Supplier 1: Digi-Key; Supplier Part Number 1: SAM1215-06-ND
footprint SSW-106-02-G-D-RA
pins: 1, 2, 3, 4, 5, 6, 7, 8, 9, 10, 11, 12

## R CRCW04024K70FKED
designator R?, comment CRCW04024K70FKED
CRCW0402 Resistor T/R 0.063W,1%,4K7 Vishay CRCW Series Thick Film Surface Mount Resistor 0402 Case 4.7k 1% 0.063W 100ppm/C; Geometry.Height: 0.4mm; Detailed Description: 4.7 kOhms ±1% 0.063W, 1/16W Chip Resistor 0402 (1005 Metric) Automotive AEC-Q200 Thick Film; Resistance: 4.7 kOhms; Power (Watts): 0.063W, 1/16W; Temperature Coefficient: ±100ppm/°C; Manufacturer_Name: Vishay; Manufacturer_Part_Number: CRCW04024K70FKED; Datasheet Link: http://www.vishay.com/docs/20035/dcrcwe3.pdf; Digi-Key Part Number: 541-4.70KLCT-ND; Tolerance: ±1%; Composition: Thick Film; Features: Automotive AEC-Q200; Operating Temperature: -55°C ~ 155°C; Package / Case: 0402 (1005 Metric); Supplier Device Package: 0402; Size / Dimension: 0.039" L x 0.020" W (1.00mm x 0.50mm); Height - Seated (Max): 0.016" (0.40mm); Number of Terminations: 2; Supplier 1: Digi-Key; Supplier Part Number 1: 541-4.70KLCT-ND
footprint RESC1005X40N
pins: 1, 2

## REF3012AIDBZT
designator U?
IC VREF SERIES 1.25V SOT23-3; Manufacturer 1: Texas Instruments; Voltage - Input: 1.8 V ~ 5.5 V; ComponentLink1Description: Datasheet; ComponentLink1URL: C:\Users\Public\Documents\Altium\AD16\Library\PDF\ref3012.pdf; Supplier 1: Digi-Key; Supplier Part Number 1: REF3012AIDBZTCT-ND; Manufacturer Part Number 1: REF3012AIDBZT; Operating Temperature: -40°C ~ 125°C (TA); Voltage - Output (Min/Fixed): 1.25V
footprint TI-DBZ3_N (SOT23, 3-Leads, Body 2.92x1.3 mm, Pitch 0.95 mm, IPC Medium Density)
pins: 1 IN, 2 OUT, 3 GND

## RES0402
designator R?  value DNP  (hidden comment: RES0402)
RES SMD 0402 Footprint; Package: 0402; ComponentLink1Description: Datasheet; Tolerance: -
footprint RESC1005L_0402 (Chip Resistor, Body 1.1x0.5mm, IPC High Density)
pins: 1, 2

## RES0402_0R_0W1
designator R?  value 0R  (hidden comment: RES0402_0R_0W1)
RES SMD 0 OHM JUMPER 1/10W 0402; Manufacturer 1: Panasonic Electronic Components; Manufacturer Part Number 1: ERJ-2GE0R00X; Package: 0402; ComponentLink1Description: Datasheet; Power: 1/10W; Tolerance: -; Supplier 1: Digi-Key; Supplier Part Number 1: P0.0JCT-ND
footprint RESC1005L_0402 (Chip Resistor, Body 1.1x0.5mm, IPC High Density)
simulation model RESISTOR (Resistor)
signal-integrity model Res
pins: 1, 2

## RES0402_1K3_0W1_1T
designator R?  value 1.3k  (hidden comment: RES0402_1K3_0W1_1T)
RES SMD 1.3K OHM 1% 1/10W 0402; Manufacturer 1: Panasonic Electronic Components; Manufacturer Part Number 1: ERJ-2RKF1301X; Package: 0402; ComponentLink1Description: Datasheet; Power: 1/10W; Tolerance: 1%; Supplier 1: Digi-Key; Supplier Part Number 1: P1.30KLCT-ND
footprint RESC1005L_0402 (Chip Resistor, Body 1.1x0.5mm, IPC High Density)
simulation model RESISTOR (Resistor)
signal-integrity model Res
pins: 1, 2

## RES0402_1K_0W1_1T
designator R?  value 1k  (hidden comment: RES0402_1K_0W1_1T)
RES SMD 1K OHM 1% 1/10W 0402; Manufacturer 1: Panasonic Electronic Components; Manufacturer Part Number 1: ERJ-2RKF1001X; Package: 0402; ComponentLink1Description: Datasheet; Power: 1/10W; Tolerance: 1%; Supplier 1: Digi-Key; Supplier Part Number 1: P1.00KLCT-ND
footprint RESC1005L_0402 (Chip Resistor, Body 1.1x0.5mm, IPC High Density)
simulation model RESISTOR (Resistor)
signal-integrity model Res
pins: 1, 2

## RES0402_2K21_0W1_1T
designator R?  value 2.21k  (hidden comment: RES0402_2K21_0W1_1T)
RES SMD 2.21K OHM 1% 1/10W 0402; Manufacturer 1: Panasonic Electronic Components; Manufacturer Part Number 1: ERJ-2RKF2211X; Package: 0402; ComponentLink1Description: Datasheet; Power: 1/10W; Tolerance: 1%; Supplier 1: Digi-Key; Supplier Part Number 1: P2.21KLCT-ND
footprint RESC1005L_0402 (Chip Resistor, Body 1.1x0.5mm, IPC High Density)
simulation model RESISTOR (Resistor)
signal-integrity model Res
pins: 1, 2

## RES0402_2K49_0W1_1T
designator R?  value 2.49k  (hidden comment: RES0402_2K49_0W1_1T)
RES SMD 2.49K OHM 1% 1/10W 0402; Manufacturer 1: Panasonic Electronic Components; Manufacturer Part Number 1: ERJ-2RKF2491X; Package: 0402; ComponentLink1Description: Datasheet; Power: 1/10W; Tolerance: 1%; Supplier 1: Digi-Key; Supplier Part Number 1: P2.49KLCT-ND
footprint RESC1005L_0402 (Chip Resistor, Body 1.1x0.5mm, IPC High Density)
simulation model RESISTOR (Resistor)
signal-integrity model Res
pins: 1, 2

## RES0402_2K_0W1_1T
designator R?  value 2k  (hidden comment: RES0402_2K_0W1_1T)
RES SMD 2K OHM 1% 1/16W 0402; Manufacturer 1: Vishay Dale; Manufacturer Part Number 1: CRCW04022K00FKED; Power: 1/10W; Package: 0402; ComponentLink1Description: Datasheet; Tolerance: 1%; Supplier 1: Digi-Key; Supplier Part Number 1: 541-2.00KLCT-ND
footprint RESC1005L_0402 (Chip Resistor, Body 1.1x0.5mm, IPC High Density)
simulation model RESISTOR (Resistor)
signal-integrity model Res
pins: 1, 2

## RES0402_2R_0W1_1T
designator R?  value 2R  (hidden comment: RES0402_2R_0W1_1T)
RES SMD 2 OHM 1% 1/16W 0402; Manufacturer 1: Vishay Dale; Manufacturer Part Number 1: CRCW04022R00FKED; Power: 1/10W; Package: 0402; ComponentLink1Description: Datasheet; Tolerance: 1%; Supplier 1: Digi-Key; Supplier Part Number 1: 541-2.00LLCT-ND
footprint RESC1005L_0402 (Chip Resistor, Body 1.1x0.5mm, IPC High Density)
simulation model RESISTOR (Resistor)
signal-integrity model Res
pins: 1, 2

## RES0402_4K7_0W1_1T
designator R?  value 4.7k  (hidden comment: RES0402_4K7_0W1_1T)
RES SMD 4.7K OHM 1% 1/10W 0402; Manufacturer 1: Panasonic Electronic Components; Manufacturer Part Number 1: ERJ-2RKF4701X; Package: 0402; ComponentLink1Description: Datasheet; Power: 1/10W; Tolerance: 1%; Supplier 1: Digi-Key; Supplier Part Number 1: P4.70KLCT-ND
footprint RESC1005L_0402 (Chip Resistor, Body 1.1x0.5mm, IPC High Density)
simulation model RESISTOR (Resistor)
signal-integrity model Res
pins: 1, 2

## RES0402_4K64_0W1_1T
designator R?  value 4.64k  (hidden comment: RES0402_4K64_0W1_1T)
RES SMD 4.64K OHM 1% 1/10W 0402; Manufacturer 1: Panasonic Electronic Components; Manufacturer Part Number 1: ERJ-2RKF4641X; Package: 0402; ComponentLink1Description: Datasheet; Power: 1/10W; Tolerance: 1%; Supplier 1: Digi-Key; Supplier Part Number 1: P4.64KLCT-ND
footprint RESC1005L_0402 (Chip Resistor, Body 1.1x0.5mm, IPC High Density)
simulation model RESISTOR (Resistor)
signal-integrity model Res
pins: 1, 2

## RES0402_4M7_0W1_5T
designator R?  value 4.7M  (hidden comment: RES0402_4M7_0W1_5T)
RES SMD 4.7M OHM 5% 1/16W 0402; Manufacturer 1: Vishay Dale; Manufacturer Part Number 1: CRCW04024M70JNED; Power: 1/10W; Package: 0402; ComponentLink1Description: Datasheet; Tolerance: 5%; Supplier 1: Digi-Key; Supplier Part Number 1: 541-4.7MJCT-ND
footprint RESC1005L_0402 (Chip Resistor, Body 1.1x0.5mm, IPC High Density)
simulation model RESISTOR (Resistor)
signal-integrity model Res
pins: 1, 2

## RES0402_5K76_0W1_1T
designator R?  value 5.76k  (hidden comment: RES0402_5K76_0W1_1T)
RES SMD 5.76K OHM 1% 1/10W 0402; Manufacturer 1: Panasonic Electronic Components; Manufacturer Part Number 1: ERJ-2RKF5761X; Package: 0402; ComponentLink1Description: Datasheet; Power: 1/10W; Tolerance: 1%; Supplier 1: Digi-Key; Supplier Part Number 1: P5.76KLCT-ND
footprint RESC1005L_0402 (Chip Resistor, Body 1.1x0.5mm, IPC High Density)
simulation model RESISTOR (Resistor)
signal-integrity model Res
pins: 1, 2

## RES0402_6K49_0W1_1T
designator R?  value 6.49k  (hidden comment: RES0402_6K49_0W1_1T)
RES SMD 6.49K OHM 1% 1/10W 0402; Manufacturer 1: Panasonic Electronic Components; Manufacturer Part Number 1: ERJ-2RKF6491X; Package: 0402; ComponentLink1Description: Datasheet; Power: 1/10W; Tolerance: 1%; Supplier 1: Digi-Key; Supplier Part Number 1: P6.49KLCT-ND
footprint RESC1005L_0402 (Chip Resistor, Body 1.1x0.5mm, IPC High Density)
simulation model RESISTOR (Resistor)
signal-integrity model Res
pins: 1, 2

## RES0402_8K06_0W1_1T
designator R?  value 8.06k  (hidden comment: RES0402_8K06_0W1_1T)
RES SMD 8.06K OHM 1% 1/10W 0402; Manufacturer 1: Panasonic Electronic Components; Manufacturer Part Number 1: ERJ-2RKF8061X; Package: 0402; ComponentLink1Description: Datasheet; Power: 1/10W; Tolerance: 1%; Supplier 1: Digi-Key; Supplier Part Number 1: P8.06KLCT-ND
footprint RESC1005L_0402 (Chip Resistor, Body 1.1x0.5mm, IPC High Density)
simulation model RESISTOR (Resistor)
signal-integrity model Res
pins: 1, 2

## RES0402_10K_0W1_05T
designator R?  value 10k  (hidden comment: RES0402_10K_0W1_05T)
RES SMD 10K OHM 0.5% 1/16W 0402; Manufacturer 1: Panasonic Electronic Components; Manufacturer Part Number 1: ERJ-2RHD1002X; Package: 0402; ComponentLink1Description: Datasheet; Power: 1/16W; Tolerance: 0.5%; Supplier 1: Digi-Key; Supplier Part Number 1: P15984CT-ND
footprint RESC1005L_0402 (Chip Resistor, Body 1.1x0.5mm, IPC High Density)
simulation model RESISTOR (Resistor)
signal-integrity model Res
pins: 1, 2

## RES0402_11K_0W1_1T
designator R?  value 11k  (hidden comment: RES0402_11K_0W1_1T)
RES SMD 11K OHM 1% 1/10W 0402; Manufacturer 1: Panasonic Electronic Components; Manufacturer Part Number 1: ERJ-2RKF1102X; Package: 0402; ComponentLink1Description: Datasheet; Power: 1/10W; Tolerance: 1%; Supplier 1: Digi-Key; Supplier Part Number 1: P11.0KLCT-ND
footprint RESC1005L_0402 (Chip Resistor, Body 1.1x0.5mm, IPC High Density)
simulation model RESISTOR (Resistor)
signal-integrity model Res
pins: 1, 2

## RES0402_20K5_0W1_1T
designator R?  value 20.5k  (hidden comment: RES0402_20K5_0W1_1T)
RES SMD 20.5K OHM 1% 1/10W 0402; Manufacturer 1: Panasonic Electronic Components; Manufacturer Part Number 1: ERJ-2RKF2052X; Package: 0402; ComponentLink1Description: Datasheet; Power: 1/10W; Tolerance: 1%; Supplier 1: Digi-Key; Supplier Part Number 1: P20.5KLCT-ND
footprint RESC1005L_0402 (Chip Resistor, Body 1.1x0.5mm, IPC High Density)
simulation model RESISTOR (Resistor)
signal-integrity model Res
pins: 1, 2

## RES0402_22R_0W1_1T
designator R?  value 22R  (hidden comment: RES0402_22R_0W1_1T)
RES SMD 22 OHM 1% 1/10W 0402; Manufacturer 1: Panasonic Electronic Components; Manufacturer Part Number 1: ERJ-2RKF22R0X; Package: 0402; ComponentLink1Description: Datasheet; Power: 1/10W; Tolerance: 1%; Supplier 1: Digi-Key; Supplier Part Number 1: P22.0LCT-ND
footprint RESC1005L_0402 (Chip Resistor, Body 1.1x0.5mm, IPC High Density)
simulation model RESISTOR (Resistor)
signal-integrity model Res
pins: 1, 2

## RES0402_24K_0W1
designator R?  value 24k  (hidden comment: RES0402_24K_0W1)
RES SMD 24K OHM 1% 1/10W 0402; Manufacturer 1: Panasonic Electronic Components; Manufacturer Part Number 1: ERJ-2RKF2402X; Package: 0402; ComponentLink1Description: Datasheet; Power: 1/10W; Tolerance: 1%; Supplier 1: Digi-Key; Supplier Part Number 1: P24.0KLCT-ND
footprint RESC1005L_0402 (Chip Resistor, Body 1.1x0.5mm, IPC High Density)
simulation model RESISTOR (Resistor)
signal-integrity model Res
pins: 1, 2

## RES0402_36R5_0W1_1T
designator R?  value 36.5R  (hidden comment: RES0402_36R5_0W1_1T)
RES SMD 36.5 OHM 1% 1/10W 0402; Manufacturer 1: Panasonic Electronic Components; Manufacturer Part Number 1: ERJ-2RKF36R5X; Package: 0402; ComponentLink1Description: Datasheet; Power: 1/10W; Tolerance: 1%; Supplier 1: Digi-Key; Supplier Part Number 1: P36.5LCT-ND
footprint RESC1005L_0402 (Chip Resistor, Body 1.1x0.5mm, IPC High Density)
simulation model RESISTOR (Resistor)
signal-integrity model Res
pins: 1, 2

## RES0402_40K2_0W1_1T
designator R?  value 40.2k  (hidden comment: RES0402_40K2_0W1_1T)
RES SMD 40.2K OHM 1% 1/10W 0402; Manufacturer 1: Panasonic Electronic Components; Manufacturer Part Number 1: ERJ-2RKF4022X; Package: 0402; ComponentLink1Description: Datasheet; Power: 1/10W; Tolerance: 1%; Supplier 1: Digi-Key; Supplier Part Number 1: P40.2KLCT-ND
footprint RESC1005L_0402 (Chip Resistor, Body 1.1x0.5mm, IPC High Density)
simulation model RESISTOR (Resistor)
signal-integrity model Res
pins: 1, 2

## RES0402_40R2_0W1_1T
designator R?  value 40.2R  (hidden comment: RES0402_40R2_0W1_1T)
RES SMD 40.2 OHM 1% 1/10W 0402; Manufacturer 1: Panasonic Electronic Components; Manufacturer Part Number 1: ERJ-2RKF40R2X; Package: 0402; ComponentLink1Description: Datasheet; Power: 1/10W; Tolerance: 1%; Supplier 1: Digi-Key; Supplier Part Number 1: P40.2LCT-ND
footprint RESC1005L_0402 (Chip Resistor, Body 1.1x0.5mm, IPC High Density)
simulation model RESISTOR (Resistor)
signal-integrity model Res
pins: 1, 2

## RES0402_47K_0W1
designator R?  value 47k  (hidden comment: RES0402_47K_0W1)
RES SMD 47K OHM 1% 1/10W 0402; Manufacturer 1: Panasonic Electronic Components; Manufacturer Part Number 1: ERJ-2RKF4702X; Package: 0402; ComponentLink1Description: Datasheet; Power: 1/10W; Tolerance: 1%; Supplier 1: Digi-Key; Supplier Part Number 1: P47.0KLCT-ND
footprint RESC1005L_0402 (Chip Resistor, Body 1.1x0.5mm, IPC High Density)
simulation model RESISTOR (Resistor)
signal-integrity model Res
pins: 1, 2

## RES0402_100K_0W2_1T
designator R?  value 100k  (hidden comment: RES0402_100K_0W2_1T)
RES SMD 100K OHM 1% 1/5W 0402; Manufacturer 1: Vishay Dale; Manufacturer Part Number 1: RCS0402100KFKED; Package: 0402; ComponentLink1Description: Datasheet; Power: 1/5W; Tolerance: 1%; Supplier 1: Digi-Key; Supplier Part Number 1: 541-2899-1-ND
footprint RESC1005L_0402 (Chip Resistor, Body 1.1x0.5mm, IPC High Density)
simulation model RESISTOR (Resistor)
signal-integrity model Res
pins: 1, 2

## RES0402_100R_0W1_1T
designator R?  value 100R  (hidden comment: RES0402_100R_0W1_1T)
RES SMD 100 OHM 1% 1/10W 0402; Manufacturer 1: Panasonic Electronic Components; Manufacturer Part Number 1: ERJ-2RKF1000X; Package: 0402; ComponentLink1Description: Datasheet; Power: 1/10W; Tolerance: 1%; Supplier 1: Digi-Key; Supplier Part Number 1: P100LCT-ND
footprint RESC1005L_0402 (Chip Resistor, Body 1.1x0.5mm, IPC High Density)
simulation model RESISTOR (Resistor)
signal-integrity model Res
pins: 1, 2

## RES0402_240R_0W1_1T
designator R?  value 240R  (hidden comment: RES0402_240R_0W1_1T)
RES SMD 240 OHM 1% 1/10W 0402; Manufacturer 1: Panasonic Electronic Components; Manufacturer Part Number 1: ERJ-2RKF2400X; Package: 0402; ComponentLink1Description: Datasheet; Power: 1/10W; Tolerance: 1%; Supplier 1: Digi-Key; Supplier Part Number 1: P240LCT-ND
footprint RESC1005L_0402 (Chip Resistor, Body 1.1x0.5mm, IPC High Density)
simulation model RESISTOR (Resistor)
signal-integrity model Res
pins: 1, 2

## RES0402_499R_0W1_1T
designator R?  value 499R  (hidden comment: RES0402_499R_0W1_1T)
RES SMD 499 OHM 1% 1/16W 0402; Manufacturer 1: Vishay Dale; Manufacturer Part Number 1: CRCW0402499RFKTD; Power: 1/10W; Package: 0402; ComponentLink1Description: Datasheet; Tolerance: 1%; Supplier 1: Digi-Key; Supplier Part Number 1: 541-2962-1-ND
footprint RESC1005L_0402 (Chip Resistor, Body 1.1x0.5mm, IPC High Density)
simulation model RESISTOR (Resistor)
signal-integrity model Res
pins: 1, 2

## RES0402_500R_0W05_01T
designator R?  value 500R  (hidden comment: RES0402_500R_0W05_01T)
RES SMD 500 OHM 0.1% 1/20W 0402; Manufacturer 1: Vishay Dale; Manufacturer Part Number 1: PNM0402E5000BST1; Power: 1/10W; Package: 0402; ComponentLink1Description: Datasheet; Tolerance: 0.1%; Supplier 1: Digi-Key; Supplier Part Number 1: 541-1905-1-ND
footprint RESC1005L_0402 (Chip Resistor, Body 1.1x0.5mm, IPC High Density)
simulation model RESISTOR (Resistor)
signal-integrity model Res
pins: 1, 2

## RES0402_649R_0W1_1T
designator R?  value 649R  (hidden comment: RES0402_649R_0W1_1T)
RES SMD 649 OHM 1% 1/10W 0402; Manufacturer 1: Panasonic Electronic Components; Manufacturer Part Number 1: ERJ-2RKF6490X; Package: 0402; ComponentLink1Description: Datasheet; Power: 1/10W; Tolerance: 1%; Supplier 1: Digi-Key; Supplier Part Number 1: P649LCT-ND
footprint RESC1005L_0402 (Chip Resistor, Body 1.1x0.5mm, IPC High Density)
simulation model RESISTOR (Resistor)
signal-integrity model Res
pins: 1, 2

## RES0402_845R_0W1_1T
designator R?  value 845R  (hidden comment: RES0402_845R_0W1_1T)
RES SMD 845 OHM 1% 1/10W 0402; Manufacturer 1: Panasonic Electronic Components; Manufacturer Part Number 1: ERJ-2RKF8450X; Package: 0402; ComponentLink1Description: Datasheet; Power: 1/10W; Tolerance: 1%; Supplier 1: Digi-Key; Supplier Part Number 1: P845LCT-ND
footprint RESC1005L_0402 (Chip Resistor, Body 1.1x0.5mm, IPC High Density)
simulation model RESISTOR (Resistor)
signal-integrity model Res
pins: 1, 2

## Resistor
designator R?  value 330R  (hidden comment: Resistor)
Manufacturer 1: Panasonic; Manufacturer Part Number 1: ERJ-3GEYJ331V; MCHP-ID: RSMT0166; Tolerance: 5%; Description_: RES TKF 330R 5% 1/10W SMD 0603; Dev Tools Status: Production; Voltage: 75V; Temperature Coeffcient: 200ppm/C; Power: 1/10W; Populated: Yes; Package: 0603; Revision: 1; Status: MCL Design; ComponentLink1URL: https://chn-vm-apps.microchip.com/mchprepo/parts/Datasheets/AOA0000CE1.pdf; ComponentLink1Description: Datasheet; Operating Temperature: -55C to +155C; Category: Resistor; Type: RES SMD; Composition: TKF; Manufacturer 2: KOA Speer; Manufacturer Part Number 2: RK73B1JTTD331J; Manufacturer 3: Stackpole Electronics Inc; Manufacturer Part Number 3: RMCF 1/16 330 5% R; Supplier 1: Digi-Key; Supplier Part Number 1: P330GTR-ND; Supplier 2: KOA Speer; Supplier Part Number 2: RK73B1JTTD331J; Supplier 3: Stackpole Electronics Inc; Supplier Part Number 3: RMCF 1/16 330 5% R; Quantity Override: 1
footprint RES_C_0603 (Chip Resistor, 2-Leads, Body 1.6x0.8mm, IPC Medium Density)
pins: 1, 2

## Resistor - 0.1%
designator R?, comment 10k
Resistor - 0.1%; Part Number: R0603_10K_0.1%_0.063W_10PPM; Part Description: Thin Film Chip Resistor; Manufacturer: Panasonic Electronic Components; Manufacturer Part Number: ERJ-3GEYJ103V; Manufacturer1 Part Number: RN73C1J10KBTDF; Power: 0.063W; TC: ±10ppm; Tolerance: ±5%; Table: Resistors SMD; Temperature Coefficient: ±200ppm/°C; Power (Watts): 0.1W, 1/10W; Component Kind: Standard; Component Type: Standard; Footprint: RESC1608X55N; Pin Count: 2; Value: 10k; Status: Not recommended; Case: 0603; Mounted: Yes; Socket: No; SMD: Yes; Manufacturer1 Example: TYCO HOLSWORTHY; Manufacturer1 ComponentHeight: 0.5mm; HelpURL: \\cern.ch\dfs\Applications\Altium\Datasheets\R0603_Tyco_RN73.pdf; Author: CERN DEM JLC; CreateDate: 3.12.2007; LatestRevisionDate: 13.03.2008; Supplier: Digi-Key; Supplier Part Number: P10KGDKR-ND; Category: Resistors; Height: 0.022" (0.55mm); Operating Temperature: -55°C ~ 155°C; Number of Terminations: 2; Composition: Thick Film; Features: Automotive AEC-Q200; RoHS: RoHS Compliant; Supplier Device Package: 0603; Size / Dimension: 0.063" L x 0.031" W (1.60mm x 0.80mm); Packaging: Digi-Reel®; Resistance (Ohms): 10k; Package / Case: 0603 (1608 Metric)
footprint RESC1608X55N
pins: 1, 2
text: 0.1%

## Resistor - 1%
designator R?, comment 51k
Resistor - 1%; Part Number: R0603_51K_1%_0.1W_100PPM; Part Description: General Purpose Thick Film Chip Resistor; Manufacturer: Yageo; Manufacturer Part Number: RC0603JR-0751KL; Manufacturer1 Part Number: NRC06F5102TRF; Power: 0.1W; TC: ±100ppm/°C; Tolerance: ±5%; Table: Resistors SMD; Power (Watts): 0.1W, 1/10W; Component Kind: Standard; Component Type: Standard; Footprint: RESC1608X55N; Pin Count: 2; Value: 51k; Status: Preferred; Case: 0603; Mounted: Yes; Socket: No; SMD: Yes; Manufacturer1 Example: NIC COMPONENT; Manufacturer1 ComponentHeight: 0.55mm; HelpURL: \\cern.ch\dfs\Applications\Altium\Datasheets\R0603_NIC_NRC.pdf; Author: CERN DEM JLC; CreateDate: 3.12.2007; LatestRevisionDate: 13.03.2008; Height: 0.022" (0.55mm); Features: Moisture Resistant; RoHS: RoHS Compliant; Number of Terminations: 2; Category: Resistors; Composition: Thick Film; Resistance (Ohms): 51k; Size / Dimension: 0.063" L x 0.031" W (1.60mm x 0.80mm); Supplier Part Number: 311-51KGRCT-ND; Supplier Device Package: 0603; Package / Case: 0603 (1608 Metric); Supplier: Digi-Key; Temperature Coefficient: ±100ppm/°C; Packaging: Cut Tape (CT); Operating Temperature: -55°C ~ 155°C
footprint RESC1608X55N
pins: 1, 2
text: 1%

## SATA HEADER
designator J?  Supplier Part Number 1: WM19104-ND
CONN HEADER 7POS VERT SMD 15GOLD; Manufacturer: Molex, LLC; Manufacturer Part Number: 0678005005; Connector Style: Header, Shrouded; Connector Type: SATA; Number of Positions: 7; Digi-Key Part Number: WM19104-ND; Series: 67800; Part Status: Active; Mounting Type: Surface Mount; Termination: Solder; Features: Board Guide; Contact Finish: Gold; Contact Finish Thickness: 15µin (0.38µm); Supplier 1: Digi-Key
footprint SATA HEADER
pins: 1 GND (power), 2 TX_P (power), 3 TX_N (power), 4 GND (power), 5 RX_N (power), 6 RX_P (power), 7 GND (power)

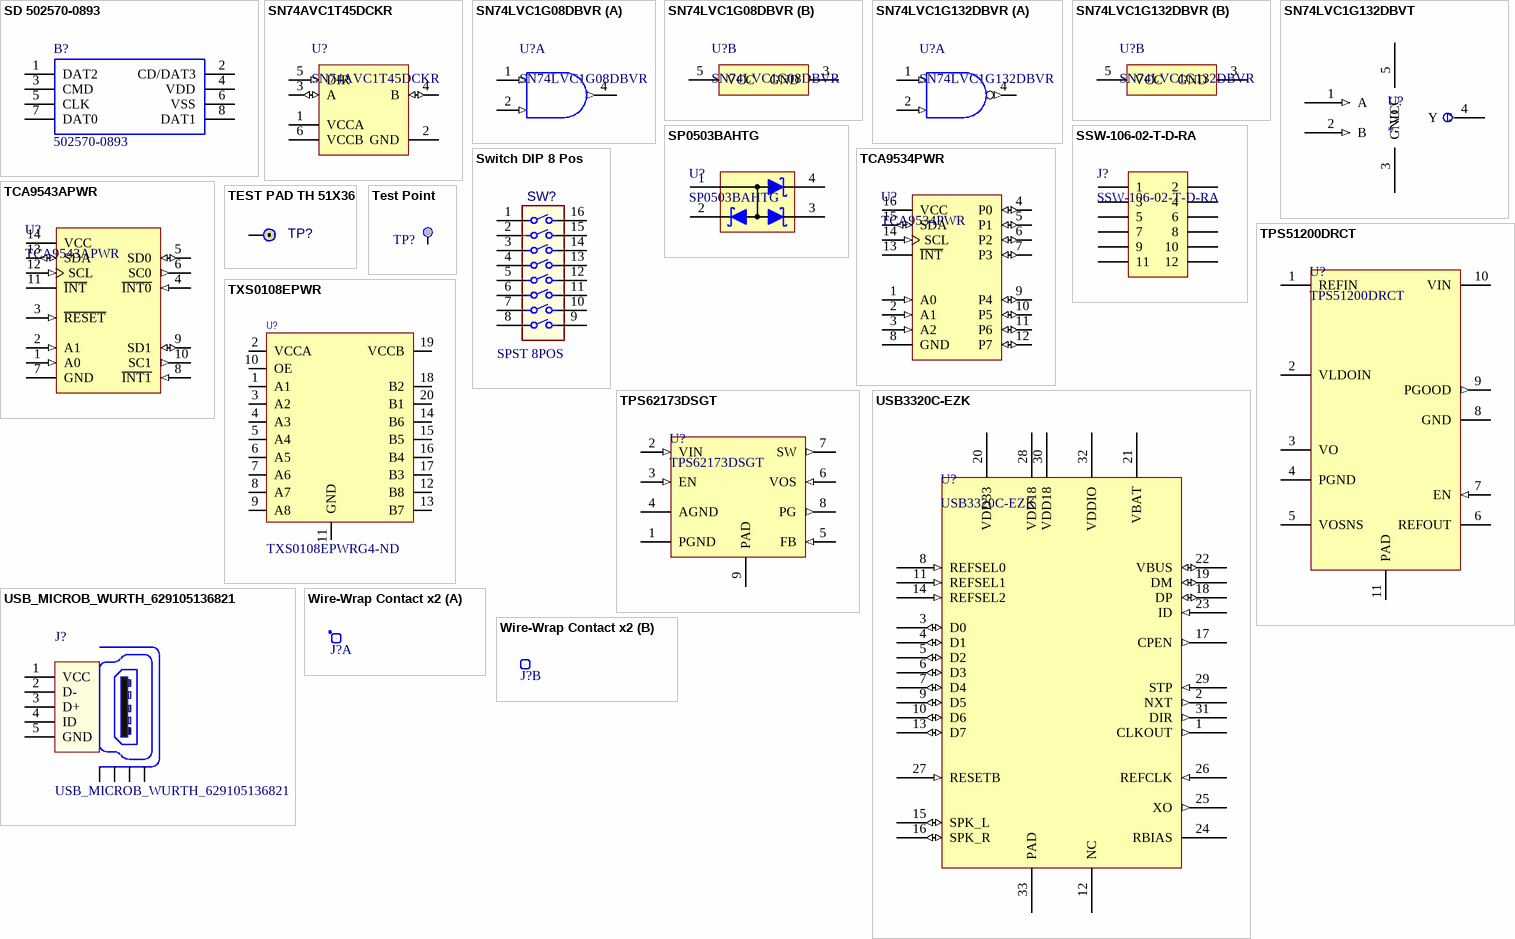
[diagram p4: symbols SD 502570-0893 to Wire-Wrap Contact x2]

## SD 502570-0893
designator B?, comment 502570-0893
Micro SD card connector,SMT,push-push Micro SD card connector,SMT,push-push; Manufacturer_Name: Molex; Geometry.Height: mm; Detailed Description: 10 (8 + 2) Position Card Connector Secure Digital - microSD™ Surface Mount, Right Angle Gold; Card Type: Secure Digital - microSD™; Number of Positions: 10 (8 + 2); Connector Type: Connector and Ejector; Insertion, Removal Method: Push In, Push Out; Manufacturer_Part_Number: 502570-0893; Datasheet Link: http://www.molex.com/molex/products/datasheet.jsp?part=active/5025700893_MEMORY_CARD_SOCKET.xml; Digi-Key Part Number: WM19093CT-ND; Series: 502570; Mounting Type: Surface Mount, Right Angle; Features: Switch; Height Above Board: 0.071" (1.80mm); Mounting Feature: Normal, Standard - Top; Contact Finish: Gold; Contact Finish Thickness: 20µin (0.51µm); Supplier 1: Digi-Key; Supplier Part Number 1: WM19093CT-ND
footprint 502570-0893_1
pins: 1 DAT2, 2 CD/DAT3, 3 CMD, 4 VDD, 5 CLK, 6 VSS, 7 DAT0, 8 DAT1

## SN74AVC1T45DCKR
designator U?
Single-Bit Dual-Supply Bus Transceiver with Configurable Voltage Translation and 3-State Outputs, DCK0006A, LARGE T&R; Manufacturer 1: Texas Instruments; VCC(Min)(V): 1.2; VCC(Max)(V): 3.6; Output Type: CMOS; Logic: True; ICC @ Nom Voltage(Max)(mA): 0.0009; Bits(#): 1; F @ Nom Voltage(Max)(Mhz): 100; Rating: Catalog; Technology Family: AVC; Voltage(Nom)(V): 1.2,1.5,1.8,2.5,3.3; Schmitt Trigger: No; Output Drive (IOL/IOH)(Max)(mA): 12/-12; Sub-Family: Dual Supply Translator; 3-State Output: Yes; tpd @ Nom Voltage(Max)(ns): 2.9,5.6,5.2,4.2,3.8; DatasheetVersion: SCES530H; PackageReference: DCK0006A; Supplier 2: Mouser; Supplier Part Number 2: 595-SN74AVC1T45DCKR; Supplier 1: Digi-Key; Supplier Part Number 1: 296-17992-2-ND; Supplier 3: Digi-Key; Supplier Part Number 3: 296-17992-1-ND; Supplier 4: Digi-Key; Supplier Part Number 4: 296-17992-6-ND; Generic Part Number: SN74AVC1T45; Input Type: CMOS; Operating Temperature Range(C): -40 to 85; Manufacturer Part Number 1: SN74AVC1T45DCKR; ComponentLink1Description: Manufacturer URL; ComponentLink1URL: C:\Users\Public\Documents\Altium\AD16\Library\PDF\sn74avc1t45.pdf
footprint DCK0006A_N (SOT23, 6-Leads, Body 2.15x1.4mm, Pitch 0.65mm, IPC Medium Density)
pins: 1 VCCA (power), 2 GND (power), 3 A (io), 4 B (io), 5 DIR (in), 6 VCCB (power)

## SN74LVC1G08DBVR
designator U?
Single 2-Input Positive-AND Gate, DBV0005A, LARGE T&R; Manufacturer 1: Texas Instruments; VCC(Min)(V): 1.65; VCC(Max)(V): 5.5; Output Type: CMOS; ICC @ Nom Voltage(Max)(mA): 0.01; Input Type: CMOS/TTL; Bits(#): 1; F @ Nom Voltage(Max)(Mhz): 150; Rating: Catalog; Technology Family: LVC; Voltage(Nom)(V): 1.8,2.5,3.3,5; Schmitt Trigger: No; Output Drive (IOL/IOH)(Max)(mA): 32/-32; tpd @ Nom Voltage(Max)(ns): 4.5,6,4,5; Logic: True; Gate Type: AND; DatasheetVersion: SCES217Y; PackageReference: DBV0005A; Supplier 2: Mouser; Supplier Part Number 2: 595-SN74LVC1G08DBVR; Supplier 1: Digi-Key; Supplier Part Number 1: 296-11601-2-ND; Supplier 3: Digi-Key; Supplier Part Number 3: 296-11601-1-ND; Supplier 4: Digi-Key; Supplier Part Number 4: 296-11601-6-ND; Generic Part Number: SN74LVC1G08; Operating Temperature: -40°C ~ 125°C; Sub-Family: AND Gate; 3-State Output: No; Manufacturer Part Number 1: SN74LVC1G08DBVR; ComponentLink1Description: Manufacturer URL; ComponentLink1URL: C:\Users\Public\Documents\Altium\AD16\Library\PDF\sn74lvc1g08.pdf
footprint DBV0005A_N (SOT23, 5-Leads, Body 3.05x1.75mm, Pitch 0.95mm, IPC Medium Density)
part A pins: 1 A (in) "Input A", 2 B (in) "Input B", 4 Y (out) "Output Y"
part B pins: 3 GND (power) "Ground Pin", 5 VCC (power) "Power Pin"